# Altium footprint library Connectors.PcbLib: 30 footprints (part 2 of 2)
Each footprint in its own frame and in the unit in brackets; x right, y up, seen from the top. Pads: shape width x height; smd on the part's side, far side on the other; paste and mask are expansions set on the pad; w line width, h text height; cw(c..) or ccw(c..) is an arc to the next point about the centre after c.
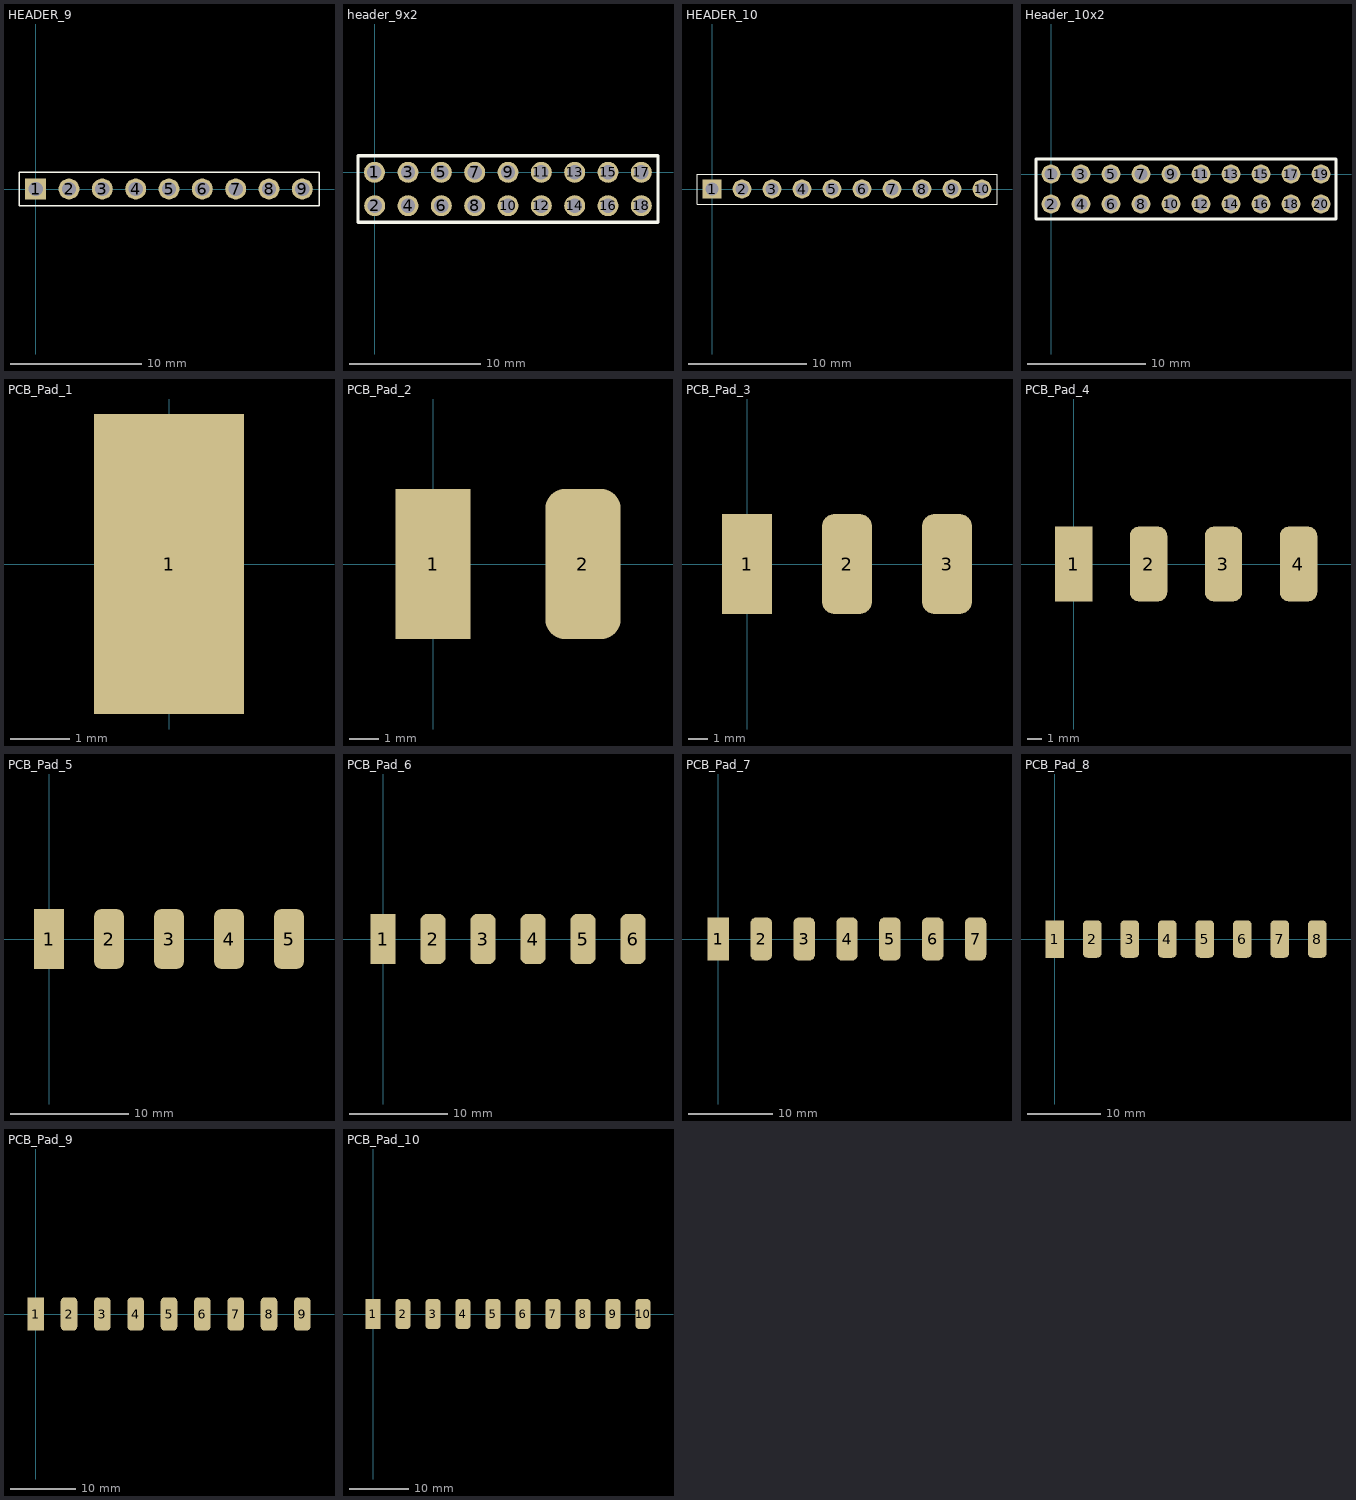
[diagram p1: the footprints below, top view; thin cyan lines are the x and y axes]

## HEADER_9 [mm]
pads (9):
  rect 1.6x1.6 hole 1.1: 1(0,0)
  round 1.6 hole 1.1: 2(2.54,0) 3(5.08,0) 4(7.62,0) 5(10.16,0) 6(12.7,0) 7(15.24,0) 8(17.78,0) 9(20.32,0)
Top Overlay:
  lines w0.1: -1.27,-1.27 21.59,-1.27 21.59,1.27 -1.27,1.27 -1.27,-1.27

## header_9x2 [mm]
pads (18):
  round 1.6 hole 1.1: 1(-0.017,0) 2(0,-2.54) 3(2.54,0) 4(2.54,-2.54) 5(5.08,0) 6(5.08,-2.54) 7(7.62,0) 8(7.62,-2.54) 9(10.16,0) 10(10.16,-2.54) 11(12.7,0) 12(12.7,-2.54) 13(15.24,0) 14(15.24,-2.54) 15(17.78,0) 16(17.78,-2.54) 17(20.32,0) 18(20.32,-2.54)
Top Overlay:
  lines w0.254: -1.27,-3.81 21.59,-3.81 21.59,1.27 -1.27,1.27 -1.27,-3.81

## HEADER_10 [mm]
pads (10):
  rect 1.6x1.6 hole 1.1: 1(0,0)
  round 1.6 hole 1.1: 2(2.54,0) 3(5.08,0) 4(7.62,0) 5(10.16,0) 6(12.7,0) 7(15.24,0) 8(17.78,0) 9(20.32,0) 10(22.86,0)
Top Overlay:
  lines w0.1: -1.27,-1.27 -1.27,1.27 24.13,1.27 24.13,-1.27 -1.27,-1.27

## Header_10x2 [mm]
pads (20):
  round 1.6 hole 1.1: 1(0,0) 2(0,-2.54) 3(2.54,0) 4(2.54,-2.54) 5(5.08,0) 6(5.08,-2.54) 7(7.62,0) 8(7.62,-2.54) 9(10.16,0) 10(10.16,-2.54) 11(12.7,0) 12(12.7,-2.54) 13(15.24,0) 14(15.24,-2.54) 15(17.78,0) 16(17.78,-2.54) 17(20.32,0) 18(20.32,-2.54) 19(22.86,0) 20(22.86,-2.54)
Top Overlay:
  lines w0.254: -1.27,-3.81 24.13,-3.81 24.13,1.27 -1.27,1.27 -1.27,-3.81

## PCB_Pad_1 [mm]
pads (1):
  rect 2.54x5.08 smd: 1(0,0)

## PCB_Pad_2 [mm]
pads (2):
  rect 2.54x5.08 smd: 1(0,0)
  rrect50% 2.54x5.08 smd: 2(5.08,0)

## PCB_Pad_3 [mm]
pads (3):
  rect 2.54x5.08 smd: 1(0,0)
  rrect50% 2.54x5.08 smd: 2(5.08,0) 3(10.16,0)

## PCB_Pad_4 [mm]
pads (4):
  rect 2.54x5.08 smd: 1(0,0)
  rrect50% 2.54x5.08 smd: 2(5.08,0) 3(10.16,0) 4(15.24,0)

## PCB_Pad_5 [mm]
pads (5):
  rect 2.54x5.08 smd: 1(0,0)
  rrect50% 2.54x5.08 smd: 2(5.08,0) 3(10.16,0) 4(15.24,0) 5(20.32,0)

## PCB_Pad_6 [mm]
pads (6):
  rect 2.54x5.08 smd: 1(0,0)
  rrect50% 2.54x5.08 smd: 2(5.08,0) 3(10.16,0) 4(15.24,0) 5(20.32,0) 6(25.4,0)

## PCB_Pad_7 [mm]
pads (7):
  rect 2.54x5.08 smd: 1(0,0)
  rrect50% 2.54x5.08 smd: 2(5.08,0) 3(10.16,0) 4(15.24,0) 5(20.32,0) 6(25.4,0) 7(30.48,0)

## PCB_Pad_8 [mm]
pads (8):
  rect 2.54x5.08 smd: 1(0,0)
  rrect50% 2.54x5.08 smd: 2(5.08,0) 3(10.16,0) 4(15.24,0) 5(20.32,0) 6(25.4,0) 7(30.48,0) 8(35.56,0)

## PCB_Pad_9 [mm]
pads (9):
  rect 2.54x5.08 smd: 1(0,0)
  rrect50% 2.54x5.08 smd: 2(5.08,0) 3(10.16,0) 4(15.24,0) 5(20.32,0) 6(25.4,0) 7(30.48,0) 8(35.56,0) 9(40.64,0)

## PCB_Pad_10 [mm]
pads (10):
  rect 2.54x5.08 smd: 1(0,0)
  rrect50% 2.54x5.08 smd: 2(5.08,0) 3(10.16,0) 4(15.24,0) 5(20.32,0) 6(25.4,0) 7(30.48,0) 8(35.56,0) 9(40.64,0) 10(45.72,0)